# EAGLE library part INA4180-SPLIT (library PowerManagementParts)
INA 4180 Current Sense amplifier (TSSOP14 package) https://www.digikey.com/product-detail/en/texas-instruments/INA4180A2IPWR/296-49095-1-ND/9091907
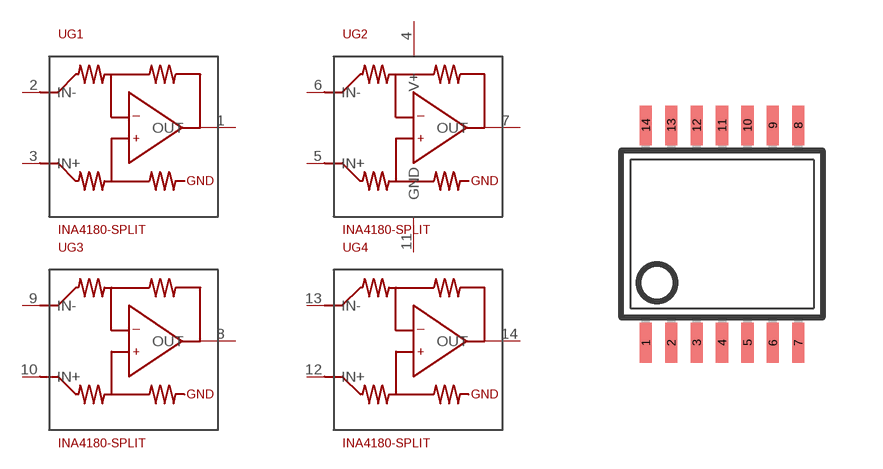
[diagram p5: symbol with the pads of TSSOP14; footprint TSSOP14]

Designator prefix -; gates G1=CURRENT_AMP G2=CURRENT_AMP G3=CURRENT_AMP G4=CURRENT_AMP G$5=CURRENT_AMP_SUPPLY

## INA4180-SPLIT  [TSSOP14]
1  G1:OUT
2  G1:IN-
3  G1:IN+
4  G$5:V+
5  G2:IN+
6  G2:IN-
7  G2:OUT
8  G3:OUT
9  G3:IN-
10  G3:IN+
11  G$5:GND
12  G4:IN+
13  G4:IN-
14  G4:OUT

## Footprint TSSOP14 (pad centres in mm)
Thin Shrink Small Outline Plastic 14
smd 0.305 x 0.991: 1 -1.905,-2.718; 2 -1.27,-2.718; 3 -0.635,-2.718; 4 0,-2.718; 5 0.635,-2.718; 6 1.27,-2.718; 7 1.905,-2.718; 8 1.905,2.718; 9 1.27,2.718; 10 0.635,2.718; 11 0,2.718; 12 -0.635,2.718; 13 -1.27,2.718; 14 -1.905,2.718